# EAGLE library part ATMEL_ATZB_24_A2R (library atmel_atzb_24_a2r)
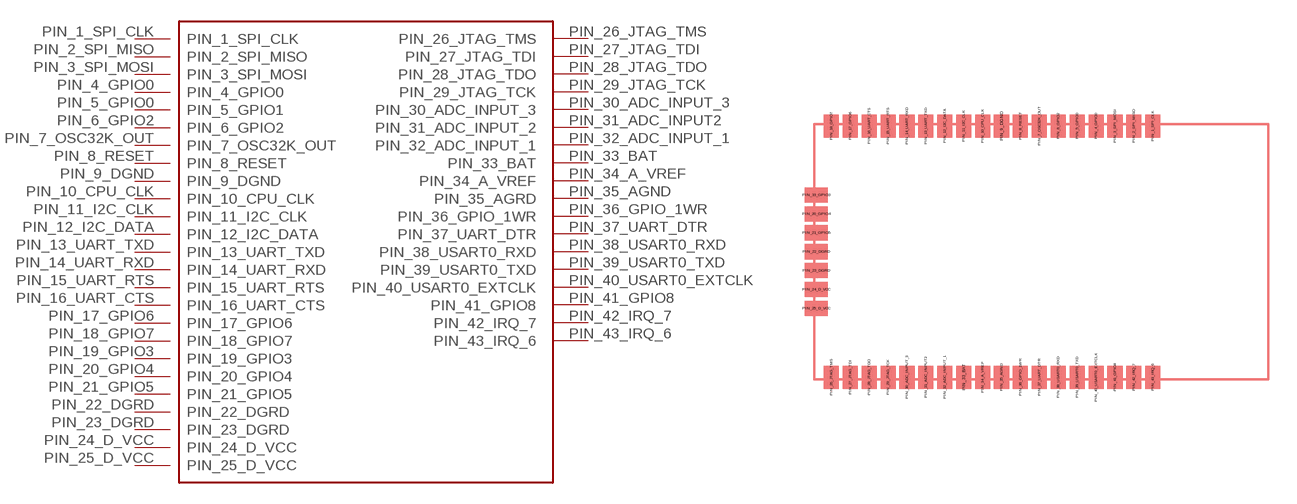
[diagram p0: symbol with the pads of ATMEL_ATZB-24-A2R; footprint ATMEL_ATZB-24-A2R]

Designator prefix -

## ATMEL_ATZB_24_A2RSMD  [ATMEL_ATZB-24-A2R]
PIN_1_SPI_CLK  PIN_1_SPI_CLK
PIN_2_SPI_MISO  PIN_2_SPI_MISO
PIN_3_SPI_MOSI  PIN_3_SPI_MOSI
PIN_4_GPIO0  PIN_4_GPIO0
PIN_5_GPIO0  PIN_5_GPIO1
PIN_6_GPIO2  PIN_6_GPIO2
PIN_7_OSC32K_OUT  PIN_7_OSC32K_OUT
PIN_8_RESET  PIN_8_RESET
PIN_9_DGND  PIN_9_DGND
PIN_10_CPU_CLK  PIN_10_CPU_CLK
PIN_11_I2C_CLK  PIN_11_I2C_CLK
PIN_12_I2C_DATA  PIN_12_I2C_DATA
PIN_13_UART_TXD  PIN_13_UART_TXD
PIN_14_UART_RXD  PIN_14_UART_RXD
PIN_15_UART_RTS  PIN_15_UART_RTS
PIN_16_UART_CTS  PIN_16_UART_CTS
PIN_17_GPIO6  PIN_17_GPIO6
PIN_18_GPIO7  PIN_18_GPIO7
PIN_19_GPIO3  PIN_19_GPIO3
PIN_20_GPIO4  PIN_20_GPIO4
PIN_21_GPIO5  PIN_21_GPIO5
PIN_22_DGRD  PIN_22_DGRD
PIN_23_DGRD  PIN_23_DGRD
PIN_24_D_VCC  PIN_24_D_VCC
PIN_25_D_VCC  PIN_25_D_VCC
PIN_26_JTAG_TMS  PIN_26_JTAG_TMS
PIN_27_JTAG_TDI  PIN_27_JTAG_TDI
PIN_28_JTAG_TDO  PIN_28_JTAG_TDO
PIN_29_JTAG_TCK  PIN_29_JTAG_TCK
PIN_30_ADC_INPUT_3  PIN_30_ADC_INPUT_3
PIN_31_ADC_INPUT2  PIN_31_ADC_INPUT_2
PIN_32_ADC_INPUT_1  PIN_32_ADC_INPUT_1
PIN_33_BAT  PIN_33_BAT
PIN_34_A_VREF  PIN_34_A_VREF
PIN_35_AGND  PIN_35_AGRD
PIN_36_GPIO_1WR  PIN_36_GPIO_1WR
PIN_37_UART_DTR  PIN_37_UART_DTR
PIN_38_USART0_RXD  PIN_38_USART0_RXD
PIN_39_USART0_TXD  PIN_39_USART0_TXD
PIN_40_USART0_EXTCLK  PIN_40_USART0_EXTCLK
PIN_41_GPIO8  PIN_41_GPIO8
PIN_42_IRQ_7  PIN_42_IRQ_7
PIN_43_IRQ_6  PIN_43_IRQ_6

## Footprint ATMEL_ATZB-24-A2R (pad centres in mm)
smd 0.8 x 1.2: PIN_1_SPI_CLK 17.9,13.4; PIN_2_SPI_MISO 16.9,13.4; PIN_3_SPI_MOSI 15.9,13.4; PIN_4_GPIO0 14.9,13.4; PIN_5_GPIO0 13.9,13.4; PIN_6_GPIO2 12.9,13.4; PIN_7_OSC32K_OUT 11.9,13.4; PIN_8_RESET 10.9,13.4; PIN_9_DGND 9.9,13.4; PIN_10_CPU_CLK 8.9,13.4; PIN_11_I2C_CLK 7.9,13.4; PIN_12_I2C_DATA 6.9,13.4; PIN_13_UART_TXD 5.9,13.4; PIN_14_UART_RXD 4.9,13.4; PIN_15_UART_RTS 3.9,13.4; PIN_16_UART_CTS 2.9,13.4; PIN_17_GPIO6 1.9,13.4; PIN_18_GPIO7 0.9,13.4; PIN_26_JTAG_TMS 0.9,0.1; PIN_27_JTAG_TDI 1.9,0.1; PIN_28_JTAG_TDO 2.9,0.1; PIN_29_JTAG_TCK 3.9,0.1; PIN_30_ADC_INPUT_3 4.9,0.1; PIN_31_ADC_INPUT2 5.9,0.1; PIN_32_ADC_INPUT_1 6.9,0.1; PIN_33_BAT 7.9,0.1; PIN_34_A_VREF 8.9,0.1; PIN_35_AGND 9.9,0.1; PIN_36_GPIO_1WR 10.9,0.1; PIN_37_UART_DTR 11.9,0.1; PIN_38_USART0_RXD 12.9,0.1; PIN_39_USART0_TXD 13.9,0.1; PIN_40_USART0_EXTCLK 14.9,0.1; PIN_41_GPIO8 15.9,0.1; PIN_42_IRQ_7 16.9,0.1; PIN_43_IRQ_6 17.9,0.1
smd 1.2 x 0.8: PIN_19_GPIO3 0.1,9.75; PIN_20_GPIO4 0.1,8.75; PIN_21_GPIO5 0.1,7.75; PIN_22_DGRD 0.1,6.75; PIN_23_DGRD 0.1,5.75; PIN_24_D_VCC 0.1,4.75; PIN_25_D_VCC 0.1,3.75